# Altium footprint library rt10.PcbLib: 51 footprints (part 3 of 4)
Each footprint in its own frame and in the unit in brackets; x right, y up, seen from the top. Pads: shape width x height; smd on the part's side, far side on the other; paste and mask are expansions set on the pad; w line width, h text height; cw(c..) or ccw(c..) is an arc to the next point about the centre after c.
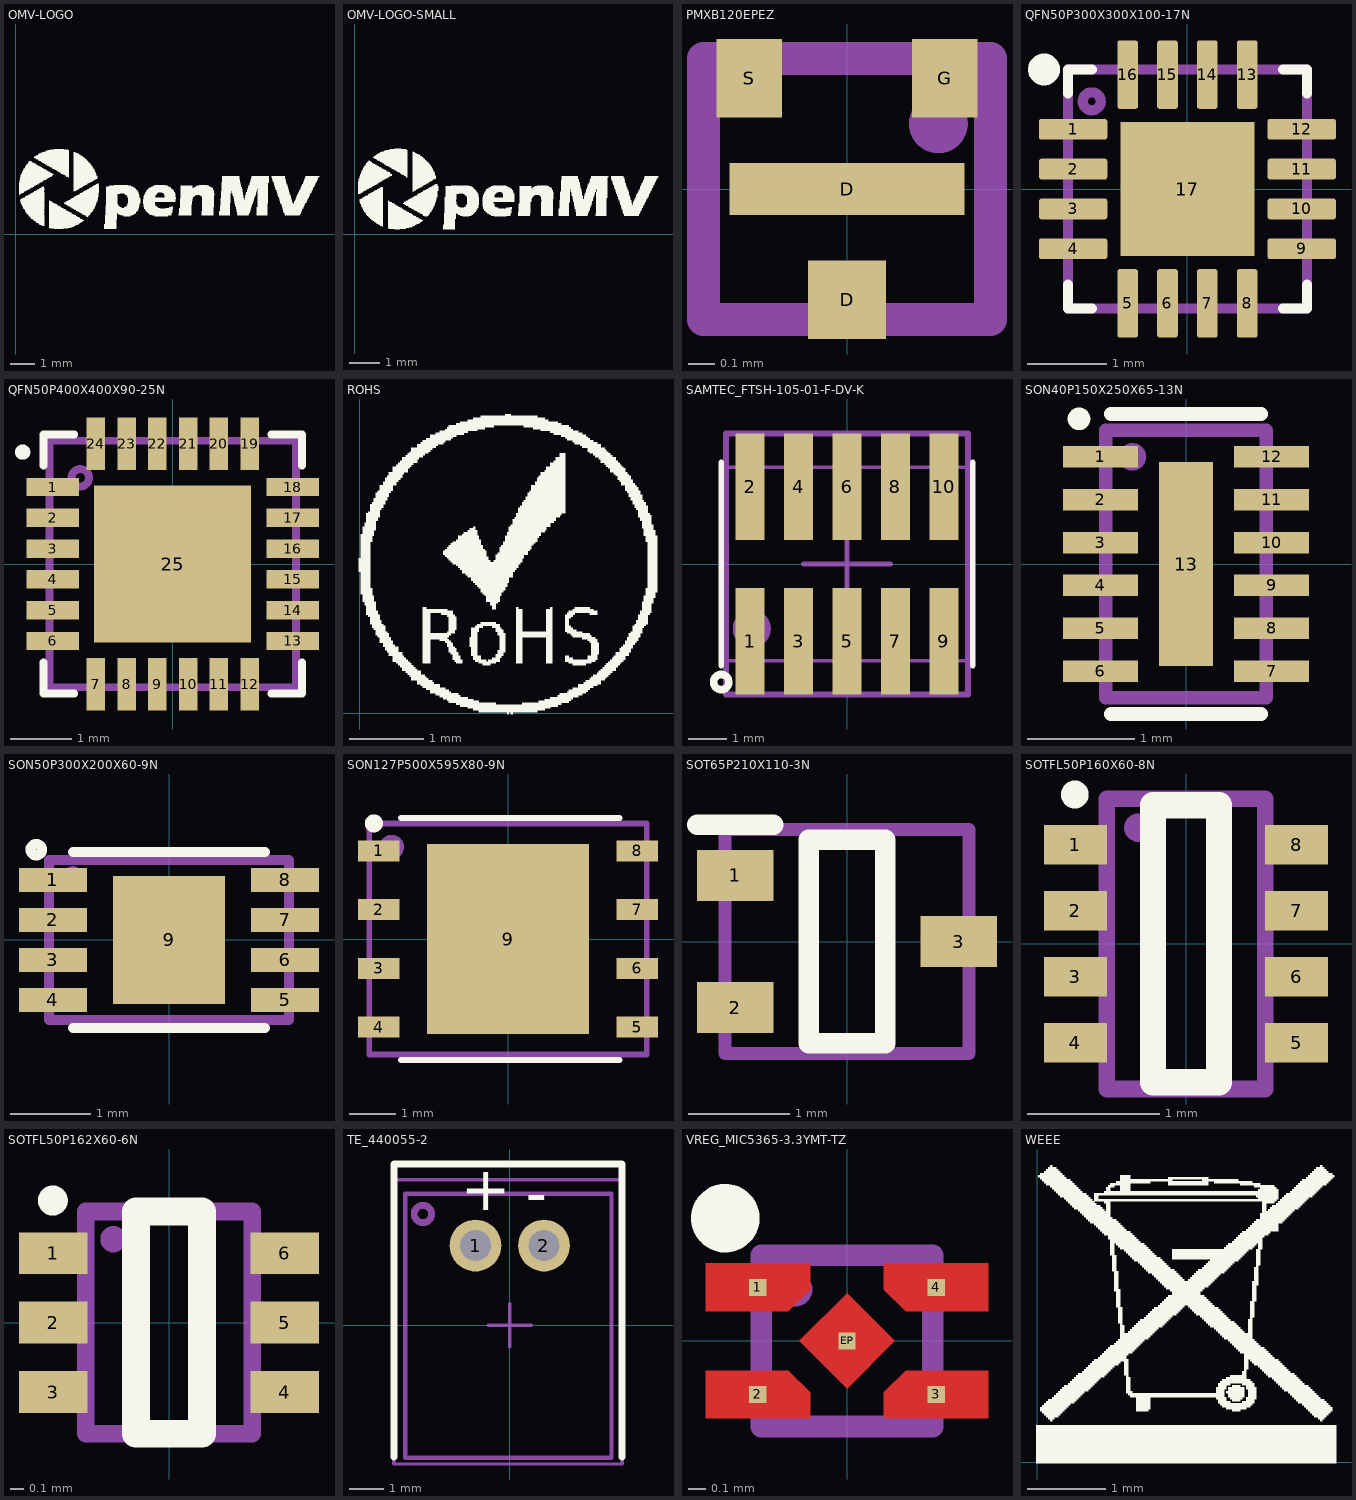
[diagram p2: the footprints below, top view; thin cyan lines are the x and y axes]

## OMV-LOGO [mm] "OMV-LOGO"
Top Overlay:
  drawing of 881 lines, arcs and shapes, not listed

## OMV-LOGO-SMALL [mm] "OMV-LOGO-SMALL"
Top Overlay:
  drawing of 701 lines, arcs and shapes, not listed

## PMXB120EPEZ [mm]
pads (4):
  rect 0.3x0.3 smd mask+0.05: D(0,-0.425)
  rect 0.9x0.2 smd mask+0.05: D(0,0)
  rect 0.25x0.3 smd mask+0.05: G(0.375,0.425) S(-0.375,0.425)
Mechanical 13:
  circle w0.127: c0.35,0.25 r0.049
  lines w0.127: -0.55,-0.5 -0.55,0.5 0.55,0.5 0.55,-0.5 -0.55,-0.5
  text ".designator" at -0.4,-0.725 h0.64
3D body: height 0.4, standoff 0, extent -0.55,-0.5 0.55,0.5

## QFN50P300X300X100-17N [mil] "QFN50P300X300X100-17N"
pads (17):
  rrect25% 33.86x10.24 smd: 1(-56.5,29.53) 2(-56.5,9.84) 3(-56.5,-9.84) 4(-56.5,-29.53) 9(56.5,-29.53) 10(56.5,-9.84) 11(56.5,9.84) 12(56.5,29.53)
  rrect25% 10.24x33.86 smd: 5(-29.53,-56.5) 6(-9.84,-56.5) 7(9.84,-56.5) 8(29.53,-56.5) 13(29.53,56.5) 14(9.84,56.5) 15(-9.84,56.5) 16(-29.53,56.5)
  rect 66.14x66.14 smd paste+0: 17(0,0)
Top Overlay:
  circle w7.87: c-70.87,59.06 r3.94
  lines w5: -59.06,-47.24 -59.06,-59.06 -47.24,-59.06 ; -59.06,47.24 -59.06,59.06 -47.24,59.06 ; 47.24,-59.06 59.06,-59.06 59.06,-47.24 ; 47.24,59.06 59.06,59.06 59.06,47.24
Top Paste:
  region: -20.87,-20.87 -20.87,20.87 20.87,20.87 20.87,-20.87
Mechanical 13:
  circle w5: c-47.24,43.31 r4.46
  lines w5: -11.81,0 0,0 ; 0,-11.81 0,0 ; 0,11.81 0,0 ; 11.81,0 0,0 ; -59.06,-59.06 -59.06,59.06 59.06,59.06 59.06,-59.06 -59.06,-59.06
  text ".designator" at -55.12,-64.97 h25
3D body: height 39.37, standoff 0, extent -59.06,-59.06 59.06,59.06

## QFN50P400X400X90-25N [mm] "QFN50P400X400X90-25N"
pads (25):
  rect 0.85x0.3 smd: 1(-1.95,1.25) 2(-1.95,0.75) 3(-1.95,0.25) 4(-1.95,-0.25) 5(-1.95,-0.75) 6(-1.95,-1.25) 13(1.95,-1.25) 14(1.95,-0.75) 15(1.95,-0.25) 16(1.95,0.25) 17(1.95,0.75) 18(1.95,1.25)
  rect 0.3x0.85 smd: 7(-1.25,-1.95) 8(-0.75,-1.95) 9(-0.25,-1.95) 10(0.25,-1.95) 11(0.75,-1.95) 12(1.25,-1.95) 19(1.25,1.95) 20(0.75,1.95) 21(0.25,1.95) 22(-0.25,1.95) 23(-0.75,1.95) 24(-1.25,1.95)
  rect 2.55x2.55 smd: 25(0,0)
Top Overlay:
  circle w0.127: c-2.436,1.816 r0.06
  lines w0.127: -2.1,-1.6 -2.1,-2.1 -1.6,-2.1 ; -2.1,1.6 -2.1,2.1 -1.6,2.1 ; 1.6,-2.1 2.1,-2.1 2.1,-1.6 ; 1.6,2.1 2.1,2.1 2.1,1.6
Mechanical 13:
  circle w0.127: c-1.5,1.4 r0.142
  lines w0.127: -0.3,0 0,0 ; 0,-0.3 0,0 ; 0,0.3 0,0 ; 0.3,0 0,0 ; -2,-2 2,-2 2,2 -2,2 -2,-2
  text ".designator" at -1.8,-2.05 h0.64
3D body: height 1, standoff 0, extent -2,-2 2,2

## ROHS [mm] "ROHS"
Top Overlay:
  drawing of 599 lines, arcs and shapes, not listed

## SAMTEC_FTSH-105-01-F-DV-K [mil] "Connector Header Surface Mount 10 position 0.050\" (1.27mm)"
pads (10):
  rect 30x110 smd paste+0 mask+0: 1(-100,-80) 2(-100,80) 3(-50,-80) 4(-50,80) 5(0,-80) 6(0,80) 7(50,-80) 8(50,80) 9(100,-80) 10(100,80)
Top Overlay:
  circle w7.87: c-130,-122.05 r7.87
  lines w6: -130,-105 -130,105 ; 130,-105 130,105
Mechanical 13:
  circle w7.87: c-98.43,-66.93 r15.75
  lines w3.94: -125,-100 -125,100 125,100 125,-100 -125,-100
  lines w5: -35.43,0 0,0 ; 0,-35.43 0,0 ; 0,35.43 0,0 ; 35.43,0 0,0
  text ".designator" at -22.64,-66.93 h15.75
Mechanical 15:
  lines w5: -45.28,0 0,0 ; 0,-45.28 0,0 ; 0,45.28 0,0 ; 45.28,0 0,0
  lines w6: -125,-135 -125,-100 -125,100 -125,135 125,135 125,100 125,-100 125,-135 -125,-135
3D body "FTSH-105-01-F-DV-K.stp": height 241.5, standoff 0.5, extent -124.99,-115 125.01,115

## SON40P150X250X65-13N [mil] "SON40P150X250X65-13N"
pads (13):
  rect 27.56x7.87 smd: 1(-31.5,39.37) 2(-31.5,23.62) 3(-31.5,7.87) 4(-31.5,-7.87) 5(-31.5,-23.62) 6(-31.5,-39.37) 7(31.5,-39.37) 8(31.5,-23.62) 9(31.5,-7.87) 10(31.5,7.87) 11(31.5,23.62) 12(31.5,39.37)
  rect 19.69x74.8 smd: 13(0,0)
Top Overlay:
  circle w5: c-39.32,53.32 r1.66
  lines w5: -27.56,-55.12 27.56,-55.12 ; -27.56,55.12 27.56,55.12
Mechanical 13:
  circle w5: c-19.68,39.37 r2.54
  lines w5: -29.53,-49.21 -29.53,49.21 29.53,49.21 29.53,-49.21 -29.53,-49.21
  text ".designator" at 31.01,-47.34 h25
3D body: height 23.62, standoff 0, extent -29.53,-49.21 29.53,49.21

## SON50P300X200X60-9N [mm] "SON50P300X200X60-9N"
pads (9):
  rect 0.85x0.3 smd: 1(-1.45,0.75) 2(-1.45,0.25) 3(-1.45,-0.25) 4(-1.45,-0.75) 5(1.45,-0.75) 6(1.45,-0.25) 7(1.45,0.25) 8(1.45,0.75)
  rect 1.4x1.6 smd: 9(0,0)
Top Overlay:
  circle w0.127: c-1.659,1.127 r0.071
  lines w0.127: -1.2,-1.1 1.2,-1.1 ; -1.2,1.1 1.2,1.1
Mechanical 13:
  circle w0.127: c-1.2,0.8 r0.057
  lines w0.127: -1.5,-1 -1.5,1 1.5,1 1.5,-1 -1.5,-1
  text ".designator" at -1.3,-1.15 h0.64
3D body: height 0.6, standoff 0, extent -1.5,-1 1.5,1

## SON127P500X595X80-9N [mil] "SON127P500X595X80-9N"
pads (9):
  rect 35.43x17.72 smd: 1(-110,75) 2(-110,25) 3(-110,-25) 4(-110,-75) 5(110,-75) 6(110,-25) 7(110,25) 8(110,75)
  rect 137.8x161.42 smd: 9(0,0)
Top Overlay:
  circle w10: c-114.17,98.43 r2.66
  lines w5: -91,-103 95,-103 ; -91,103 95,103
Mechanical 13:
  circle w5: c-98.96,78.32 r7.87
  lines w5: -19.68,0 0,0 ; 0,-19.68 0,0 ; 0,19.68 0,0 ; 19.68,0 0,0 ; -118.11,-98.43 118.11,-98.43 118.11,98.43 -118.11,98.43 -118.11,-98.43
  text ".designator" at -102.36,-100.4 h25
3D body: height 39.37, standoff 0, extent -118.11,-98.43 118.11,98.43

## SOT65P210X110-3N [mm] "SOT65P210X110-3N"
pads (3):
  rect 0.75x0.5 smd: 1(-1.1,0.65) 2(-1.1,-0.65) 3(1.1,0)
Top Overlay:
  lines w0.2: -1.475,1.15 -0.725,1.15 ; -0.375,-1 0.375,-1 0.375,1 -0.375,1 -0.375,-1
Mechanical 13:
  circle w0.127: c-1,0.8 r0.028
  lines w0.127: -1.2,-1.1 -1.2,1.1 1.2,1.1 1.2,-1.1 -1.2,-1.1
  text ".designator" at -1,-1.25 h0.64
3D body "SC-70.stp": height 1.1, standoff 0, extent -1.2,-1.1 1.2,1.1

## SOTFL50P160X60-8N [mm] "SOTFL50P160X60-8N"
pads (8):
  rect 0.475x0.3 smd: 1(-0.838,0.75) 2(-0.838,0.25) 3(-0.838,-0.25) 4(-0.838,-0.75) 5(0.838,-0.75) 6(0.838,-0.25) 7(0.838,0.25) 8(0.838,0.75)
Top Overlay:
  circle w0.127: c-0.843,1.131 r0.042
  lines w0.2: -0.25,-1.05 0.25,-1.05 0.25,1.05 -0.25,1.05 -0.25,-1.05
Mechanical 13:
  circle w0.127: c-0.361,0.88 r0.044
  lines w0.127: -0.6,-1.1 -0.6,1.1 0.6,1.1 0.6,-1.1 -0.6,-1.1
  text ".designator" at 0.75,-1.1 h0.64
3D body: height 0.6, standoff 0, extent -0.6,-1.1 0.6,1.1

## SOTFL50P162X60-6N [mm] "SOTFL50P162X60-6N"
pads (6):
  rect 0.492x0.3 smd: 1(-0.834,0.5) 2(-0.834,0) 3(-0.834,-0.5) 4(0.834,-0.5) 5(0.834,0) 6(0.834,0.5)
Top Overlay:
  circle w0.127: c-0.837,0.879 r0.045
  lines w0.2: -0.238,-0.8 -0.238,0.8 0.238,0.8 0.238,-0.8 -0.238,-0.8
Mechanical 13:
  circle w0.127: c-0.4,0.6 r0.031
  lines w0.127: -0.6,-0.8 -0.6,0.8 0.6,0.8 0.6,-0.8 -0.6,-0.8
  text ".designator" at 0.761,-0.804 h0.64
3D body: height 0.6, standoff 0, extent -0.6,-0.8 0.6,0.8

## TE_440055-2 [mm] "CONN HEADER PH SIDE 2POS 2MM TH"
height 5.5
pads (2):
  round 1.5 hole 0.9 mask+0.05: 1(-0.991,2.311) 2(0.991,2.311)
Top Overlay:
  lines w0.2: -3.353,-3.81 -3.353,4.674 3.251,4.674 3.251,-3.81
  text "+" at -1.422,3.327 h1.27
  text "-" at 0.457,3.226 h1.27
Top Paste:
  circle w0.508: c0.991,2.311 r0.733
  circle w0.508: c-0.991,2.311 r0.733
Mechanical 13:
  circle w0.2: c-2.515,3.226 r0.252
  lines w0.1: -0.625,0 0,0 ; 0,-0.625 0,0 ; 0,0.625 0,0 ; 0.625,0 0,0
  lines w0.127: -3.023,-3.835 2.946,-3.835 2.946,3.81 -3.023,3.81 -3.023,-3.835
  text ".designator" at -0.85,0.8 h0.4
Mechanical 15:
  lines w0.1: -0.625,0 0,0 ; 0,-0.625 0,0 ; 0,0.625 0,0 ; 0.625,0 0,0 ; -3.353,-4.013 3.251,-4.013 3.251,4.216 -3.353,4.216 -3.353,-4.013
3D body "c-440055-2-b3-3d.stp": height 4.96, standoff -3.39, extent -3.054,-3.875 2.946,3.825

## VREG_MIC5365-3.3YMT-TZ [mil] "VREG_MIC5365-3.3YMT-TZ"
pads (5):
  rect 3.94x3.94 smd paste+0 mask+0: 1(-20.5,12.3) 2(-20.5,-12.3) 3(20.5,-12.3) 4(20.5,12.3) EP(0,0)
Top Layer:
  region: -32.5,17.8 -32.5,6.8 -13.5,6.8 -8.5,11.8 -8.5,17.8
  region: 32.5,17.8 32.5,6.8 13.5,6.8 8.5,11.8 8.5,17.8
  region: -32.5,-17.8 -32.5,-6.8 -13.5,-6.8 -8.5,-11.8 -8.5,-17.8
  region: 32.5,-17.8 32.5,-6.8 13.5,-6.8 8.5,-11.8 8.5,-17.8
  region: -11,0 0,-11 11,0 0,11
Top Overlay:
  circle w7.87: c-27.97,28.21 r3.94
Top Paste:
  region: -32.5,17.8 -32.5,6.8 -13.5,6.8 -8.5,11.8 -8.5,17.8
  region: 32.5,17.8 32.5,6.8 13.5,6.8 8.5,11.8 8.5,17.8
  region: -32.5,-17.8 -32.5,-6.8 -13.5,-6.8 -8.5,-11.8 -8.5,-17.8
  region: 32.5,-17.8 32.5,-6.8 13.5,-6.8 8.5,-11.8 8.5,-17.8
  region: -11,0 0,-11 11,0 0,11
Top Solder:
  region: -6.53,19.77 -6.53,10.74 -12.44,4.83 -34.47,4.83 -34.47,19.77
  region: 6.53,19.77 6.53,10.74 12.44,4.83 34.47,4.83 34.47,19.77
  region: 34.47,-19.77 6.53,-19.77 6.53,-10.74 12.44,-4.83 34.47,-4.83
  region: -34.47,-4.83 -34.47,-19.77 -6.53,-19.77 -6.53,-10.74 -12.44,-4.83
  region: -13.78,0 0,-13.78 13.78,0 0,13.78
Mechanical 13:
  circle w5: c-11.81,11.81 r1.36
  lines w5: -19.68,-19.68 -19.68,19.68 19.68,19.68 19.68,-19.68 -19.68,-19.68
  text ".designator" at 23.62,-29.54 h25
3D body: height 21.65, standoff 0, extent -19.68,-19.68 19.68,19.68

## WEEE [mm] "WEEE"
Top Overlay:
  drawing of 457 lines, arcs and shapes, not listed